# Altium integrated library WE-PFC_rev15a.intlib: 21 symbols
Pins are listed as number, name and electrical type; pins without a type are passive.

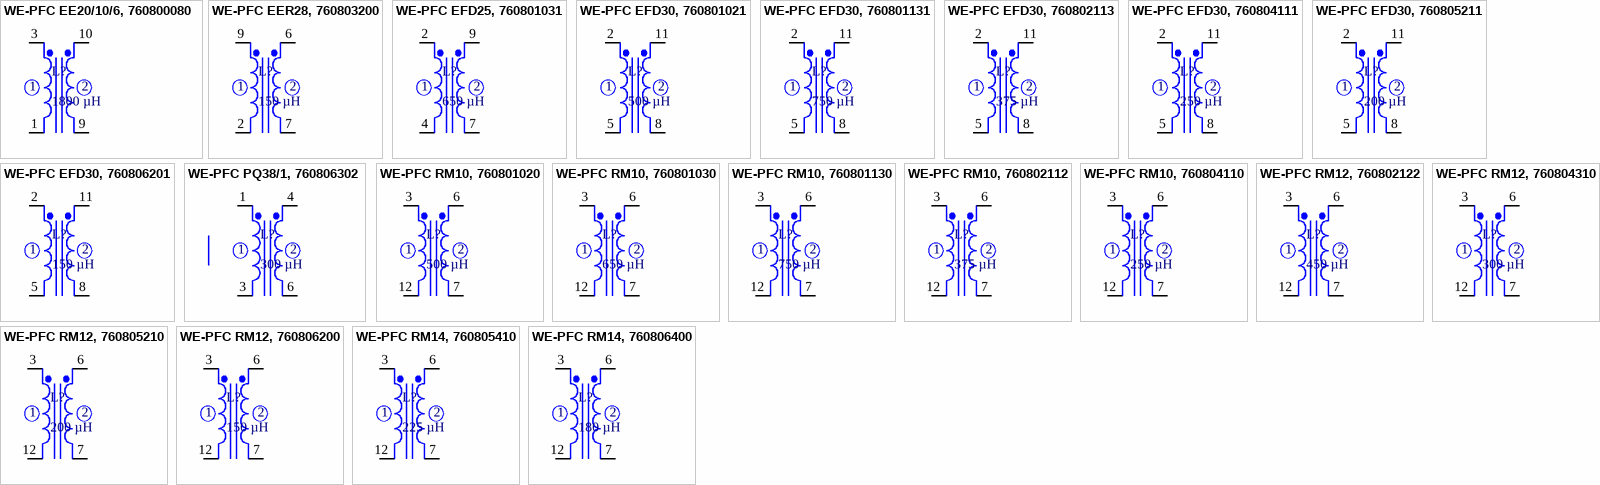
[diagram p0: symbols WE-PFC EE20/10/6, 760800080 to WE-PFC RM14, 760806400]

## WE-PFC EE20/10/6, 760800080
designator L?, comment 1800 µH
THT Power Inductor WE-PFC , L=1800 µH; PartNo: 760800080; Manufacturer: Würth Elektronik eiSos GmbH; Inductance: 1800 µH; ComponentLink1Description: Manufacturer; ComponentLink1URL: http://www.we-online.de; Created by: Christin Otto; Created Date: JAN-2014; ComponentLink2Description: Datasheet; ComponentLink2URL: http://www.we-online.de/katalog/media/pdf/760800080.pdf
footprint EE20/10/6 (THT-10pin- Body 22x32mm ,3.81mm pitch)
pins: 1 Pri-, 3 Pri+, 9 Sec-, 10 Sec+
text: 2

## WE-PFC EER28, 760803200
designator L?, comment 150 µH
THT Power Inductor WE-PFC , L=150 µH; PartNo: 760803200; Manufacturer: Würth Elektronik eiSos GmbH; Inductance: 150 µH; ComponentLink1Description: Manufacturer; ComponentLink1URL: http://www.we-online.de; Created by: Christin Otto; Created Date: JAN-2014; ComponentLink2Description: Datasheet; ComponentLink2URL: http://www.we-online.de/katalog/media/pdf/760803200.pdf
footprint EER28 (THT-10pin- Body 33x32mm ,6mm pitch)
pins: 2 Pri-, 6 Sec+, 7 Sec-, 9 Pri+
text: 1

## WE-PFC EFD25, 760801031
designator L?, comment 650 µH
THT Power Inductor WE-PFC , L=650 µH; PartNo: 760801031; Manufacturer: Würth Elektronik eiSos GmbH; Inductance: 650 µH; ComponentLink1Description: Manufacturer; ComponentLink1URL: http://www.we-online.de; Created by: Christin Otto; Created Date: JAN-2014; ComponentLink2Description: Datasheet; ComponentLink2URL: http://www.we-online.de/katalog/media/pdf/760801031.pdf
footprint EFD25 (THT-10pin- Body 25.81x25mm ,5mm pitch)
pins: 2 Pri+, 4 Pri-, 7 Sec-, 9 Sec+
text: 1

## WE-PFC EFD30, 760801021
designator L?, comment 500 µH
THT Power Inductor WE-PFC , L=500 µH; PartNo: 760801021; Manufacturer: Würth Elektronik eiSos GmbH; Inductance: 500 µH; ComponentLink1Description: Manufacturer; ComponentLink1URL: http://www.we-online.de; Created by: Christin Otto; Created Date: JAN-2014; ComponentLink2Description: Datasheet; ComponentLink2URL: http://www.we-online.de/katalog/media/pdf/760801021.pdf
footprint EFD30 (THT-12pin- Body 31x30mm ,5mm pitch)
pins: 2 Pri+, 5 Pri-, 8 Sec-, 11 Sec+
text: 1

## WE-PFC EFD30, 760801131
designator L?, comment 750 µH
THT Power Inductor WE-PFC , L=750 µH; PartNo: 760801131; Manufacturer: Würth Elektronik eiSos GmbH; Inductance: 750 µH; ComponentLink1Description: Manufacturer; ComponentLink1URL: http://www.we-online.de; Created by: Christin Otto; Created Date: JAN-2014; ComponentLink2Description: Datasheet; ComponentLink2URL: http://www.we-online.de/katalog/media/pdf/760801131.pdf
footprint EFD30 (THT-12pin- Body 31x30mm ,5mm pitch)
pins: 2 Pri+, 5 Pri-, 8 Sec-, 11 Sec+
text: 1

## WE-PFC EFD30, 760802113
designator L?, comment 375 µH
THT Power Inductor WE-PFC , L=375 µH; PartNo: 760802113; Manufacturer: Würth Elektronik eiSos GmbH; Inductance: 375 µH; ComponentLink1Description: Manufacturer; ComponentLink1URL: http://www.we-online.de; Created by: Christin Otto; Created Date: JAN-2014; ComponentLink2Description: Datasheet; ComponentLink2URL: http://www.we-online.de/katalog/media/pdf/760802113.pdf
footprint EFD30 (THT-12pin- Body 31x30mm ,5mm pitch)
pins: 2 Pri+, 5 Pri-, 8 Sec-, 11 Sec+
text: 1

## WE-PFC EFD30, 760804111
designator L?, comment 250 µH
THT Power Inductor WE-PFC , L=250 µH; PartNo: 760804111; Manufacturer: Würth Elektronik eiSos GmbH; Inductance: 250 µH; ComponentLink1Description: Manufacturer; ComponentLink1URL: http://www.we-online.de; Created by: Christin Otto; Created Date: JAN-2014; ComponentLink2Description: Datasheet; ComponentLink2URL: http://www.we-online.de/katalog/media/pdf/760804111.pdf
footprint EFD30 (THT-12pin- Body 31x30mm ,5mm pitch)
pins: 2 Pri+, 5 Pri-, 8 Sec-, 11 Sec+
text: 1

## WE-PFC EFD30, 760805211
designator L?, comment 200 µH
THT Power Inductor WE-PFC , L=200 µH; PartNo: 760805211; Manufacturer: Würth Elektronik eiSos GmbH; Inductance: 200 µH; ComponentLink1Description: Manufacturer; ComponentLink1URL: http://www.we-online.de; Created by: Christin Otto; Created Date: JAN-2014; ComponentLink2Description: Datasheet; ComponentLink2URL: http://www.we-online.de/katalog/media/pdf/760805211.pdf
footprint EFD30 (THT-12pin- Body 31x30mm ,5mm pitch)
pins: 2 Pri+, 5 Pri-, 8 Sec-, 11 Sec+
text: 1

## WE-PFC EFD30, 760806201
designator L?, comment 150 µH
THT Power Inductor WE-PFC , L=150 µH; PartNo: 760806201; Manufacturer: Würth Elektronik eiSos GmbH; Inductance: 150 µH; ComponentLink1Description: Manufacturer; ComponentLink1URL: http://www.we-online.de; Created by: Christin Otto; Created Date: JAN-2014; ComponentLink2Description: Datasheet; ComponentLink2URL: http://www.we-online.de/katalog/media/pdf/760806201.pdf
footprint EFD30 (THT-12pin- Body 31x30mm ,5mm pitch)
pins: 2 Pri+, 5 Pri-, 8 Sec-, 11 Sec+
text: 1

## WE-PFC PQ38/1, 760806302
designator L?, comment 300 µH
THT Power Inductor WE-PFC , L=300 µH; PartNo: 760806302; Manufacturer: Würth Elektronik eiSos GmbH; Inductance: 300 µH; ComponentLink1Description: Manufacturer; ComponentLink1URL: http://www.we-online.de; Created by: Christin Otto; Created Date: JAN-2014; ComponentLink2Description: Datasheet; ComponentLink2URL: http://www.we-online.de/katalog/media/pdf/760806302.pdf
footprint PQ38/11 (THT-06pin- Body 38x47mm ,6mm pitch)
pins: 1 Pri+, 3 Pri-, 4 Sec+, 6 Sec-
text: 2

## WE-PFC RM10, 760801020
designator L?, comment 500 µH
THT Power Inductor WE-PFC , L=500 µH; PartNo: 760801020; Manufacturer: Würth Elektronik eiSos GmbH; Inductance: 500 µH; ComponentLink1Description: Manufacturer; ComponentLink1URL: http://www.we-online.de; Created by: Christin Otto; Created Date: JAN-2014; ComponentLink2Description: Datasheet; ComponentLink2URL: http://www.we-online.de/katalog/media/pdf/760802112.pdf
footprint RM10 (THT-12pin- Body 31x29mm ,3.59mm pitch)
pins: 3 Pri+, 6 Sec+, 7 Sec-, 12 Pri-
text: 1; 2

## WE-PFC RM10, 760801030
designator L?, comment 650 µH
THT Power Inductor WE-PFC , L=650 µH; PartNo: 760801030; Manufacturer: Würth Elektronik eiSos GmbH; Inductance: 650 µH; ComponentLink1Description: Manufacturer; ComponentLink1URL: http://www.we-online.de; Created by: Christin Otto; Created Date: JAN-2014; ComponentLink2Description: Datasheet; ComponentLink2URL: http://www.we-online.de/katalog/media/pdf/760801030.pdf
footprint RM10 (THT-12pin- Body 31x29mm ,3.59mm pitch)
pins: 3 Pri+, 6 Sec+, 7 Sec-, 12 Pri-
text: 1; 2

## WE-PFC RM10, 760801130
designator L?, comment 750 µH
THT Power Inductor WE-PFC , L=750 µH; PartNo: 760801130; Manufacturer: Würth Elektronik eiSos GmbH; Inductance: 750 µH; ComponentLink1Description: Manufacturer; ComponentLink1URL: http://www.we-online.de; Created by: Christin Otto; Created Date: JAN-2014; ComponentLink2Description: Datasheet; ComponentLink2URL: http://www.we-online.de/katalog/media/pdf/760801130.pdf
footprint RM10 (THT-12pin- Body 31x29mm ,3.59mm pitch)
pins: 3 Pri+, 6 Sec+, 7 Sec-, 12 Pri-
text: 1; 2

## WE-PFC RM10, 760802112
designator L?, comment 375 µH
THT Power Inductor WE-PFC , L=375 µH; PartNo: 760802112; Manufacturer: Würth Elektronik eiSos GmbH; Inductance: 375 µH; ComponentLink1Description: Manufacturer; ComponentLink1URL: http://www.we-online.de; Created by: Christin Otto; Created Date: JAN-2014; ComponentLink2Description: Datasheet; ComponentLink2URL: http://www.we-online.de/katalog/media/pdf/760802112.pdf
footprint RM10 (THT-12pin- Body 31x29mm ,3.59mm pitch)
pins: 3 Pri+, 6 Sec+, 7 Sec-, 12 Pri-
text: 1; 2

## WE-PFC RM10, 760804110
designator L?, comment 250 µH
THT Power Inductor WE-PFC , L=250 µH; PartNo: 760804110; Manufacturer: Würth Elektronik eiSos GmbH; Inductance: 250 µH; ComponentLink1Description: Manufacturer; ComponentLink1URL: http://www.we-online.de; Created by: Christin Otto; Created Date: JAN-2014; ComponentLink2Description: Datasheet; ComponentLink2URL: http://www.we-online.de/katalog/media/pdf/760804110.pdf
footprint RM10 (THT-12pin- Body 31x29mm ,3.59mm pitch)
pins: 3 Pri+, 6 Sec+, 7 Sec-, 12 Pri-
text: 1; 2

## WE-PFC RM12, 760802122
designator L?, comment 450 µH
THT Power Inductor WE-PFC , L=450 µH; PartNo: 760802122; Manufacturer: Würth Elektronik eiSos GmbH; Inductance: 450 µH; ComponentLink1Description: Manufacturer; ComponentLink1URL: http://www.we-online.de; Created by: Christin Otto; Created Date: JAN-2014; ComponentLink2Description: Datasheet; ComponentLink2URL: http://www.we-online.de/katalog/media/pdf/760802122.pdf
footprint RM12 (THT-12pin- Body 41x40mm ,3.59mm pitch)
pins: 3 Pri+, 6 Sec+, 7 Sec-, 12 Pri-
text: 1; 2

## WE-PFC RM12, 760804310
designator L?, comment 300 µH
THT Power Inductor WE-PFC , L=300 µH; PartNo: 760804310; Manufacturer: Würth Elektronik eiSos GmbH; Inductance: 300 µH; ComponentLink1Description: Manufacturer; ComponentLink1URL: http://www.we-online.de; Created by: Christin Otto; Created Date: JAN-2014; ComponentLink2Description: Datasheet; ComponentLink2URL: http://www.we-online.de/katalog/media/pdf/760804310.pdf
footprint RM12 (THT-12pin- Body 41x40mm ,3.59mm pitch)
pins: 3 Pri+, 6 Sec+, 7 Sec-, 12 Pri-
text: 1; 2

## WE-PFC RM12, 760805210
designator L?, comment 200 µH
THT Power Inductor WE-PFC , L=200 µH; PartNo: 760805210; Manufacturer: Würth Elektronik eiSos GmbH; Inductance: 200 µH; ComponentLink1Description: Manufacturer; ComponentLink1URL: http://www.we-online.de; Created by: Christin Otto; Created Date: JAN-2014; ComponentLink2Description: Datasheet; ComponentLink2URL: http://www.we-online.de/katalog/media/pdf/760805210.pdf
footprint RM12 (THT-12pin- Body 41x40mm ,3.59mm pitch)
pins: 3 Pri+, 6 Sec+, 7 Sec-, 12 Pri-
text: 1; 2

## WE-PFC RM12, 760806200
designator L?, comment 150 µH
THT Power Inductor WE-PFC , L=150 µH; PartNo: 760806200; Manufacturer: Würth Elektronik eiSos GmbH; Inductance: 150 µH; ComponentLink1Description: Manufacturer; ComponentLink1URL: http://www.we-online.de; Created by: Christin Otto; Created Date: JAN-2014; ComponentLink2Description: Datasheet; ComponentLink2URL: http://www.we-online.de/katalog/media/pdf/760806200.pdf
footprint RM12 (THT-12pin- Body 41x40mm ,3.59mm pitch)
pins: 3 Pri+, 6 Sec+, 7 Sec-, 12 Pri-
text: 1; 2

## WE-PFC RM14, 760805410
designator L?, comment 225 µH
THT Power Inductor WE-PFC , L=225 µH; PartNo: 760805410; Manufacturer: Würth Elektronik eiSos GmbH; Inductance: 225 µH; ComponentLink1Description: Manufacturer; ComponentLink1URL: http://www.we-online.de; Created by: Christin Otto; Created Date: JAN-2014; ComponentLink2Description: Datasheet; ComponentLink2URL: http://www.we-online.de/katalog/media/pdf/760805410.pdf
footprint RM14 (THT-12pin- Body 48x43mm ,7.18mm pitch)
pins: 3 Pri+, 6 Sec+, 7 Sec-, 12 Pri-
text: 1; 2

## WE-PFC RM14, 760806400
designator L?, comment 180 µH
THT Power Inductor WE-PFC , L=180 µH; PartNo: 760806400; Manufacturer: Würth Elektronik eiSos GmbH; Inductance: 180 µH; ComponentLink1Description: Manufacturer; ComponentLink1URL: http://www.we-online.de; Created by: Christin Otto; Created Date: JAN-2014; ComponentLink2Description: Datasheet; ComponentLink2URL: http://www.we-online.de/katalog/media/pdf/760806400.pdf
footprint RM14 (THT-12pin- Body 48x43mm ,7.18mm pitch)
pins: 3 Pri+, 6 Sec+, 7 Sec-, 12 Pri-
text: 1; 2